# EAGLE library part ULN2003 (library ASL)
ULN2003 -- Seven Input Darlington with Integrated flyback diodes
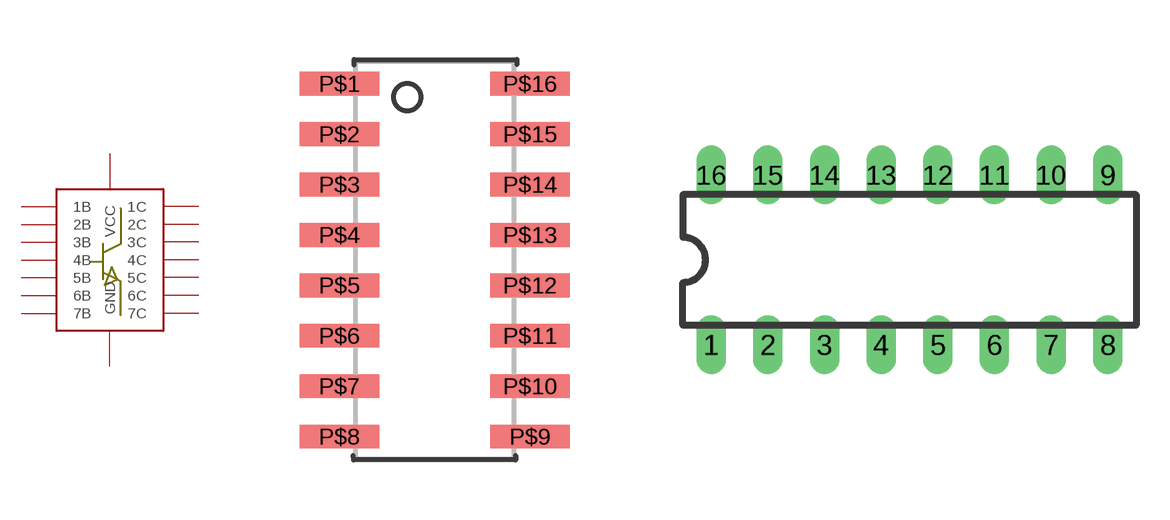
[diagram p25: symbol with the pads of SOIC-16D; footprints SOIC-16D, DIL16]

Designator prefix U

## ULN2003_SMD  [SOIC-16D]
P$1  1B  in
P$2  2B  in
P$3  3B  in
P$4  4B  in
P$5  5B  in
P$6  6B  in
P$7  7B  in
P$8  GND  pwr
P$9  VCC  pwr
P$10  7C  out
P$11  6C  out
P$12  5C  out
P$13  4C  out
P$14  3C  out
P$15  2C  out
P$16  1C  out

## ULN2003_THRU  [DIL16]
1  1B  in
2  2B  in
3  3B  in
4  4B  in
5  5B  in
6  6B  in
7  7B  in
8  GND  pwr
9  VCC  pwr
10  7C  out
11  6C  out
12  5C  out
13  4C  out
14  3C  out
15  2C  out
16  1C  out

## Footprint SOIC-16D (pad centres in mm)
SOIC-16 (D) package
smd 2 x 0.6: P$1 -2.4,4.445; P$2 -2.4,3.175; P$3 -2.4,1.905; P$4 -2.4,0.635; P$5 -2.4,-0.635; P$6 -2.4,-1.905; P$7 -2.4,-3.175; P$8 -2.4,-4.445; P$9 2.4,-4.445; P$10 2.4,-3.175; P$11 2.4,-1.905; P$12 2.4,-0.635; P$13 2.4,0.635; P$14 2.4,1.905; P$15 2.4,3.175; P$16 2.4,4.445

## Footprint DIL16 (pad centres in mm)
Dual In Line Package
drill 0.813 long: 1 -8.89,-3.81; 2 -6.35,-3.81; 3 -3.81,-3.81; 4 -1.27,-3.81; 5 1.27,-3.81; 6 3.81,-3.81; 7 6.35,-3.81; 8 8.89,-3.81; 9 8.89,3.81; 10 6.35,3.81; 11 3.81,3.81; 12 1.27,3.81; 13 -1.27,3.81; 14 -3.81,3.81; 15 -6.35,3.81; 16 -8.89,3.81